# Altium schematic symbol library conector's_and_TP.SchLib: 9 symbols
Pins are listed as number, name and electrical type; pins without a type are passive.

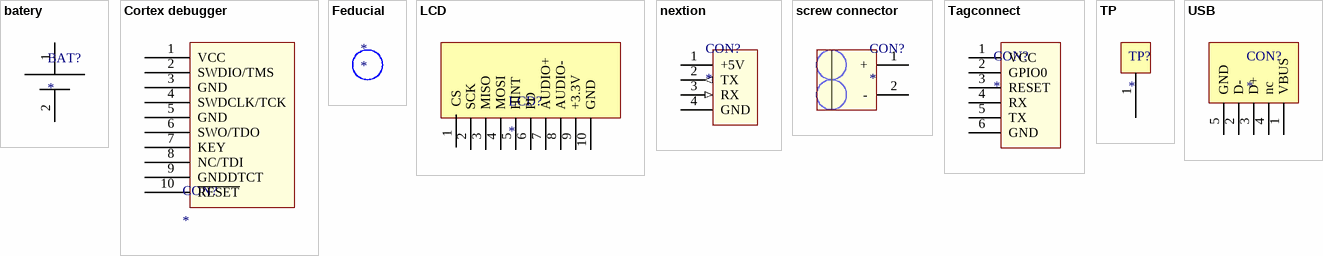
[diagram p0: symbols batery to USB]

## batery
designator BAT?
pins: 1, 2

## Cortex debugger
designator CON?
footprint Jtag header
pins: 1 VCC, 2 SWDIO/TMS, 3 GND, 4 SWDCLK/TCK, 5 GND, 6 SWO/TDO, 7 KEY, 8 NC/TDI, 9 GNDDTCT, 10 ~{RESET}

## Feducial
designator *
footprint Fiducial 1

## LCD
designator LCD?
footprint LCD
pins: 1 CS, 2 SCK, 3 MISO, 4 MOSI, 5 HINT, 6 PD, 7 AUDIO+, 8 AUDIO-, 9 +3.3V, 10 GND

## nextion
designator CON?
pins: 1 +5V (power), 2 TX (out), 3 RX (in), 4 GND

## screw connector
designator CON?
screw connector
pins: 1 +, 2 -

## Tagconnect
designator CON?
footprint Tagconnect
footprint RJ12
footprint debug header
pins: 1 VCC, 2 GPIO0, 3 RESET, 4 RX, 5 TX, 6 GND

## TP
designator TP?
footprint TP
pins: 1

## USB
designator CON?
footprint microusb
pins: 1 VBUS, 2 D-, 3 D+, 4 nc, 5 GND